# Altium footprint library switches_toggle.PcbLib: 1 footprints
Each footprint in its own frame and in the unit in brackets; x right, y up, seen from the top. Pads: shape width x height; smd on the part's side, far side on the other; paste and mask are expansions set on the pad; w line width, h text height; cw(c..) or ccw(c..) is an arc to the next point about the centre after c.
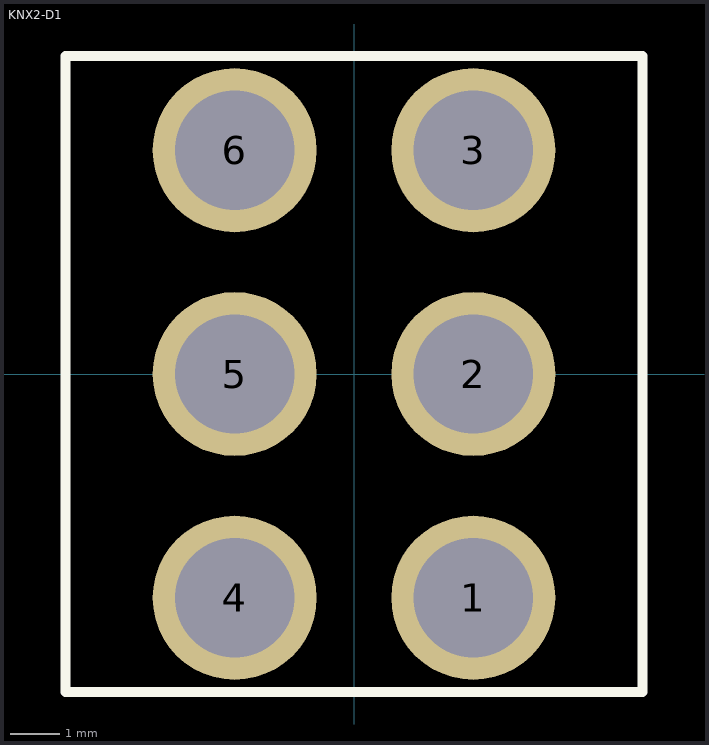
[diagram p0: the footprint, top view; thin cyan lines are the x and y axes]

## KNX2-D1 [mm] "KNX2-D1"
pads (6):
  round 3.3 hole 2.4: 1(2.4,-4.5) 2(2.4,0) 3(2.4,4.5) 4(-2.4,-4.5) 5(-2.4,0) 6(-2.4,4.5)
Top Overlay:
  lines w0.2: -5.8,-6.4 -5.8,6.4 5.8,6.4 5.8,-6.4 -5.8,-6.4
3D body "m2t-22aap1.stp": height 29.83, standoff -4.1, extent -5.75,-6.35 5.75,6.35